# EAGLE library part EC3SAW_D (library dc-dc-converter)
DC-DC CONVERTER Isolated DC/DC 3W Dual Output
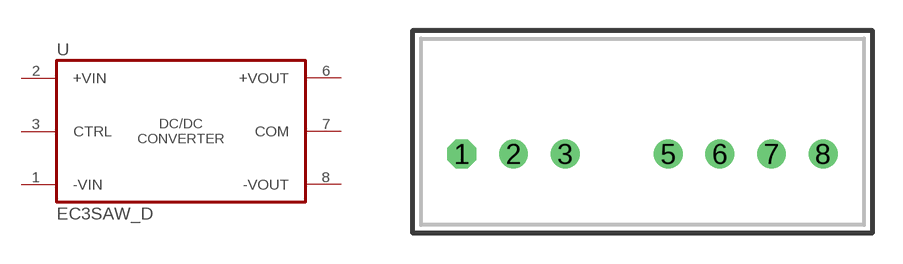
[diagram p12: symbol with the pads of EC3SAW; footprint EC3SAW]

Designator prefix U

## EC3SAW_D  [EC3SAW]
1  -VIN  pas
2  +VIN  pas
3  CTRL  pas
6  +VOUT  pas
7  COM  pas
8  -VOUT  pas

## Footprint EC3SAW (pad centres in mm)
drill 0.61 pad 1.422 octagon: 1 -8.89,0
drill 0.61 pad 1.422: 2 -6.35,0; 3 -3.81,0; 5 1.27,0; 6 3.81,0; 7 6.35,0; 8 8.89,0